# Altium footprint library ARCOM_Modules.PcbLib: 7 footprints
Each footprint in its own frame and in the unit in brackets; x right, y up, seen from the top. Pads: shape width x height; smd on the part's side, far side on the other; paste and mask are expansions set on the pad; w line width, h text height; cw(c..) or ccw(c..) is an arc to the next point about the centre after c.
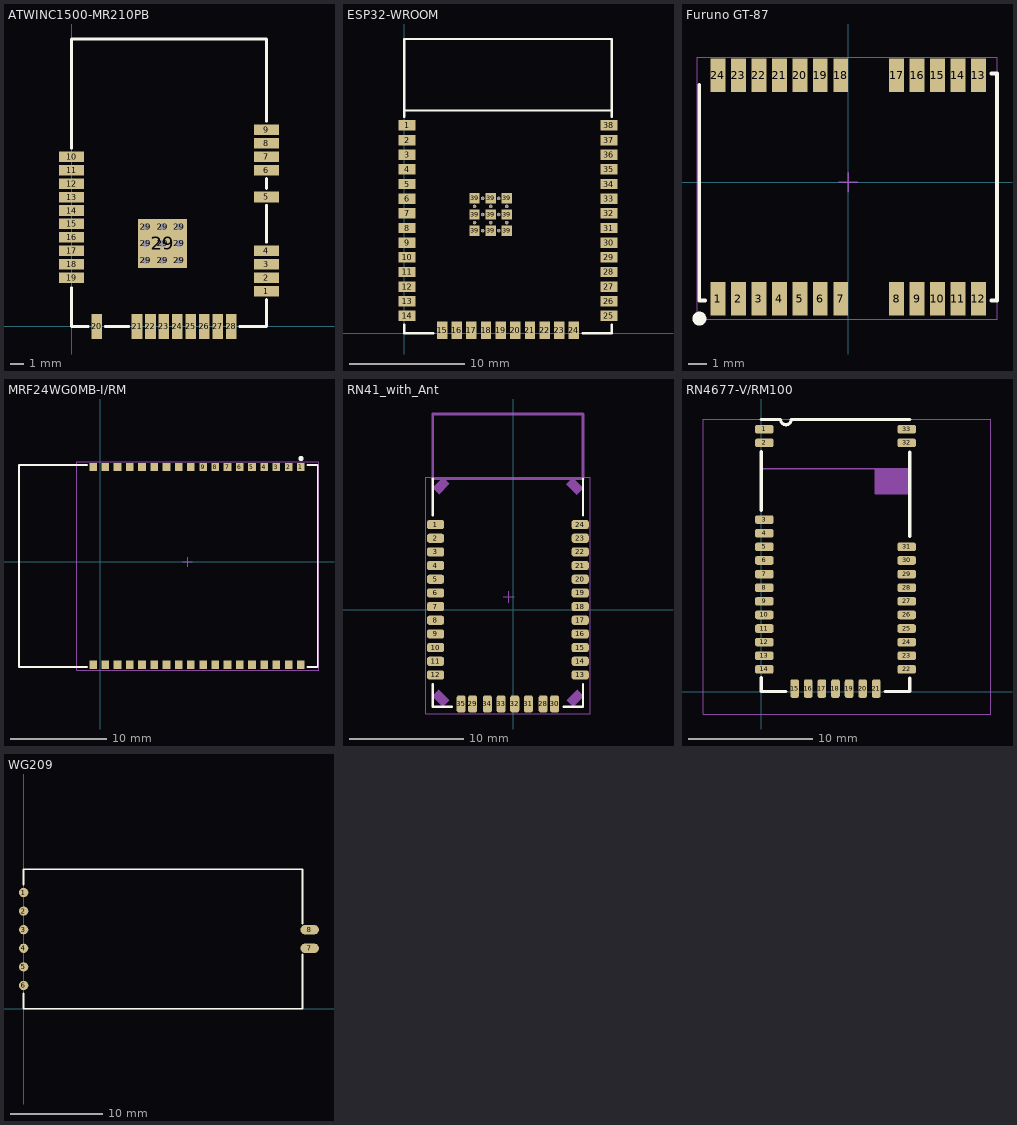
[diagram p0: the footprints below, top view; thin cyan lines are the x and y axes]

## ATWINC1500-MR210PB [mm]
pads (38):
  rect 1.9x0.8 smd: 1(14.73,2.67) 2(14.73,3.686) 3(14.73,4.702) 4(14.73,5.718) 5(14.73,9.782) 6(14.73,11.814) 7(14.73,12.83) 8(14.73,13.846) 9(14.73,14.862) 10(0,12.824) 11(0,11.808) 12(0,10.792) 13(0,9.776) 14(0,8.76) 15(0,7.744) 16(0,6.728) 17(0,5.712) 18(0,4.696) 19(0,3.68)
  rect 0.8x1.9 smd: 20(1.9,0) 21(4.948,0) 22(5.964,0) 23(6.98,0) 24(7.996,0) 25(9.012,0) 26(10.028,0) 27(11.044,0) 28(12.06,0)
  round 1.016 hole 0.508: 29(5.61,5) 29(5.61,6.27) 29(5.61,7.54) 29(6.88,5) 29(6.88,6.27) 29(6.88,7.54) 29(8.15,5) 29(8.15,6.27) 29(8.15,7.54)
  rect 3.7x3.7 smd: 29(6.88,6.27)
Top Overlay:
  lines w0.2: 0,2.921 0,0 1.27,0 ; 0,13.462 0,21.717 ; 0,21.72 14.732,21.72 14.73,15.5 ; 2.54,0 4.318,0 ; 12.7,-0.002 14.732,0 14.73,2.032 ; 14.73,6.356 14.732,9.144 ; 14.73,10.42 14.732,11.176

## ESP32-WROOM [mm]
pads (59):
  rect 1.5x0.9 smd: 1(0.25,18.01) 2(0.25,16.74) 3(0.25,15.47) 4(0.25,14.2) 5(0.25,12.93) 6(0.25,11.66) 7(0.25,10.39) 8(0.25,9.12) 9(0.25,7.85) 10(0.25,6.58) 11(0.25,5.31) 12(0.25,4.04) 13(0.25,2.77) 14(0.25,1.5) 25(17.75,1.5) 26(17.75,2.77) 27(17.75,4.04) 28(17.75,5.31) 29(17.75,6.58) 30(17.75,7.85) 31(17.75,9.12) 32(17.75,10.39) 33(17.75,11.66) 34(17.75,12.93) 35(17.75,14.2) 36(17.75,15.47) 37(17.75,16.74) 38(17.75,18.01)
  rect 0.9x1.5 smd: 15(3.285,0.25) 16(4.555,0.25) 17(5.825,0.25) 18(7.095,0.25) 19(8.365,0.25) 20(9.635,0.25) 21(10.905,0.25) 22(12.175,0.25) 23(13.445,0.25) 24(14.715,0.25)
  rect 0.9x0.9 smd: 39(6.1,8.89) 39(6.1,10.29) 39(6.1,11.69) 39(7.5,8.89) 39(7.5,10.29) 39(7.5,11.69) 39(8.9,8.89) 39(8.9,10.29) 39(8.9,11.69)
  round 0.305 hole 0.25: 39(6.1,9.59) 39(6.1,10.99) 39(6.8,8.89) 39(6.8,10.29) 39(6.8,11.69) 39(7.5,9.59) 39(7.5,10.99) 39(8.2,8.89) 39(8.2,10.29) 39(8.2,11.69) 39(8.9,9.59) 39(8.9,10.99)
Top Overlay:
  lines w0.2: 0,0.762 0,0 2.54,0 ; 0,18.754 0,19.31 ; 15.46,0 18,0 18,0.762 ; 18,18.754 18,19.31 ; 0,19.31 0,25.5 18,25.5 18,19.31 ; 0,19.31 18,19.31
3D body "ESP32-WROOM-32E_20210903_0.STEP": height 3.2, standoff 0.1, extent 0,0 18,25.5

## Furuno GT-87 [mm]
height 4
pads (24):
  rect 0.8x1.8 smd: 1(-7,-6.254) 2(-5.9,-6.254) 3(-4.8,-6.254) 4(-3.7,-6.254) 5(-2.6,-6.254) 6(-1.5,-6.254) 7(-0.4,-6.254) 8(2.6,-6.254) 9(3.7,-6.254) 10(4.8,-6.254) 11(5.9,-6.254) 12(7,-6.254) 13(7,5.746) 14(5.9,5.746) 15(4.8,5.746) 16(3.7,5.746) 17(2.6,5.746) 18(-0.4,5.746) 19(-1.5,5.746) 20(-2.6,5.746) 21(-3.7,5.746) 22(-4.8,5.746) 23(-5.9,5.746) 24(-7,5.746)
Top Overlay:
  circle w0.5: c-8,-7.329 r0.125
  lines w0.2: -8,5.246 -8,-6.354 -7.7,-6.354 ; 7.7,-6.354 8,-6.354 8,5.846 7.7,5.846
M15 Top Assy:
  lines w0.05: -8.128,-7.366 -8.128,6.731 8.001,6.731 8.001,-7.366 -8.128,-7.366
  lines w0.1: -0.5,0 0.5,0 ; 0,-0.5 0,0.5
3D body: height 0.6, standoff 0, extent -8.001,-6.35 8.001,5.842
3D body: height 3, standoff 0.6, extent -7.747,-6.223 7.747,5.715
3D body: height 3.03, standoff 3, extent -3.683,-0.508 -2.921,0.508
3D body: height 3.03, standoff 3, extent -2.603,-0.508 -1.968,0.508
3D body: height 3.03, standoff 3, extent -1.587,0 -0.953,0.127
3D body: height 3.03, standoff 3, extent -0.571,-0.508 0.064,0.508
3D body: height 3.03, standoff 3, extent 0.381,-0.508 1.143,0.508

## MRF24WG0MB-I/RM [mm]
pads (36):
  rect 0.8x0.85 smd: 1(20.844,9.848) 2(19.574,9.848) 3(18.304,9.848) 4(17.034,9.848) 5(15.764,9.848) 6(14.494,9.848) 7(13.224,9.848) 8(11.954,9.848) 9(10.684,9.848) 10(9.414,9.848) 11(8.144,9.848) 12(6.874,9.848) 13(5.604,9.848) 14(4.334,9.848) 15(3.064,9.848) 16(1.794,9.848) 17(0.524,9.848) 18(-0.746,9.848) 19(-0.746,-10.701) 20(0.524,-10.701) 21(1.794,-10.701) 22(3.064,-10.701) 23(4.334,-10.701) 24(5.604,-10.701) 25(6.874,-10.701) 26(8.144,-10.701) 27(9.414,-10.701) 28(10.684,-10.701) 29(11.954,-10.701) 30(13.224,-10.701) 31(14.494,-10.701) 32(15.764,-10.701) 33(17.034,-10.701) 34(18.304,-10.701) 35(19.574,-10.701) 36(20.844,-10.701)
Top Overlay:
  circle w0.35: c20.858,10.736 r0.1
  lines w0.2: -8.455,10.074 -8.455,-10.926 -1.372,-10.926 ; -8.455,10.08 -1.372,10.08 ; 21.54,-10.926 22.607,-10.926 22.607,10.074 21.54,10.074
M15 Top Assy:
  lines w0.05: -2.464,-11.278 22.733,-11.278 22.733,10.414 -2.464,10.414 -2.464,-11.278
  lines w0.1: 8.568,0 9.568,0 ; 9.068,-0.5 9.068,0.5
3D body: height 2.25, standoff 0, extent -7.121,-9.737 -5.121,-7.737
3D body: height 1, standoff 0, extent -8.458,-10.82 22.479,10.008
3D body: height 2.7, standoff 0, extent -2.413,-9.5 21.844,8.526

## RN41_with_Ant [mm]
pads (32):
  rrect50% 1.5x0.8 smd: 1(-6.805,7.46) 2(-6.805,6.26) 3(-6.805,5.06) 4(-6.805,3.86) 5(-6.805,2.66) 6(-6.805,1.46) 7(-6.805,0.26) 8(-6.805,-0.94) 9(-6.805,-2.14) 10(-6.805,-3.34) 11(-6.805,-4.54) 12(-6.805,-5.74) 13(5.895,-5.74) 14(5.895,-4.54) 15(5.895,-3.34) 16(5.895,-2.14) 17(5.895,-0.94) 18(5.895,0.26) 19(5.895,1.46) 20(5.895,2.66) 21(5.895,3.86) 22(5.895,5.06) 23(5.895,6.26) 24(5.895,7.46)
  rrect50% 0.8x1.5 smd: 28(2.645,-8.29) 29(-3.555,-8.29) 30(3.645,-8.29) 31(1.345,-8.29) 32(0.145,-8.29) 33(-1.055,-8.29) 34(-2.255,-8.29) 35(-4.555,-8.29)
Top Overlay:
  lines w0.2: -7.055,-6.54 -7.055,-8.54 -5.355,-8.54 ; -7.055,8.26 -7.055,11.485 ; 4.445,-8.54 6.145,-8.54 6.145,-6.54 ; 6.145,8.26 6.145,11.485
Mechanical 1:
  region: 5.601,10.068 6.167,10.634 5.248,11.553 4.682,10.987
  region: 6.188,-7.613 5.622,-7.047 4.703,-7.966 5.269,-8.532
  region: -7.068,10.684 -6.502,10.118 -5.583,11.037 -6.149,11.603
  region: -6.178,-8.532 -5.612,-7.966 -6.531,-7.047 -7.097,-7.613
  lines w0.254: -7.055,11.485 -7.055,17.17 6.145,17.17 6.145,17.067 6.145,11.485 -7.055,11.485
  text "Board Edge" at -5.309,11.963 h0.51
M15 Top Assy:
  lines w0.05: -7.671,-9.169 -7.671,11.608 6.782,11.608 6.782,-9.169 -7.671,-9.169
  lines w0.1: -0.881,1.118 0.119,1.118 ; -0.381,0.618 -0.381,1.618

## RN4677-V/RM100 [mm]
pads (33):
  rrect50% 1.5x0.7 smd: 1(0.25,21.2) 2(0.25,20.1) 3(0.25,13.9) 4(0.25,12.8) 5(0.25,11.7) 6(0.25,10.6) 7(0.25,9.5) 8(0.25,8.4) 9(0.25,7.3) 10(0.25,6.2) 11(0.25,5.1) 12(0.25,4) 13(0.25,2.9) 14(0.25,1.8) 22(11.75,1.8) 23(11.75,2.9) 24(11.75,4) 25(11.75,5.1) 26(11.75,6.2) 27(11.75,7.3) 28(11.75,8.4) 29(11.75,9.5) 30(11.75,10.6) 31(11.75,11.7) 32(11.75,20.1) 33(11.75,21.2)
  rrect50% 0.7x1.5 smd: 15(2.7,0.25) 16(3.8,0.25) 17(4.9,0.25) 18(6,0.25) 19(7.1,0.25) 20(8.2,0.25) 21(9.3,0.25)
Top Overlay:
  lines w0.254: 0,1.143 0,0 1.981,0 ; 0,14.656 0,19.406 ; 0,22 1.567,22 ccw(c2,22) 2.433,22 12,22 ; 10.008,0 12,0 12,1.118 ; 12,12.522 12,19.355
Mechanical 1:
  rectangle: 9.22,16 11.989,18
  lines w0.076: -4.677,-1.803 -4.677,22 18.542,22 18.542,-1.803 -4.677,-1.803
  lines w0.127: 0,18 11.989,18 ; 11.989,18 11.989,16 9.22,16 9.22,18 11.989,18

## WG209 [mm]
pads (8):
  round 1 smd: 1(0,12.5) 2(0,10.5) 3(0,8.5) 4(0,6.5) 5(0,4.5) 6(0,2.5)
  oval 2x1 smd: 7(30.766,6.5) 8(30.766,8.5)
Top Overlay:
  lines w0.2: 0,0 30,0 ; 0,15 30,15
  lines w0.203: 0,0 0,1.651 ; 0,13.349 0,15 ; 30,0 30,5.842 ; 30,9.158 30,15